# Altium schematic symbol library WE-HEPC.SchLib: 16 symbols
Pins are listed as number, name and electrical type; pins without a type are passive.

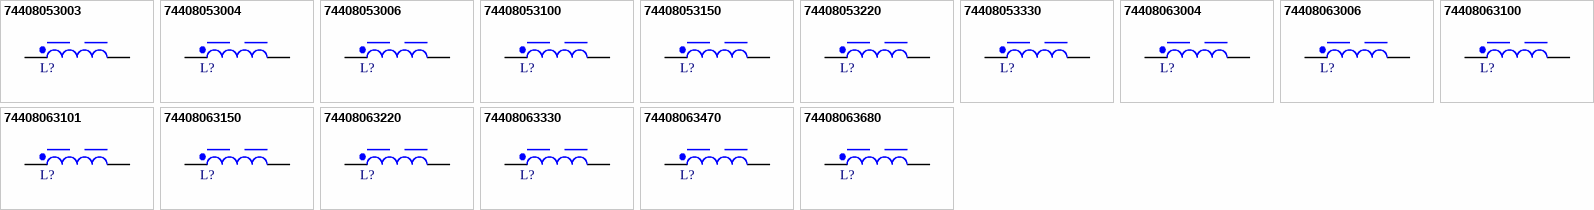
[diagram p0: symbols 74408053003 to 74408063680]

## 74408053003
designator L?, comment 3.3uH, 2A  (value not drawn)
WE-HEPC SMT Power Inductor, size 5030, 3.3uH, 2A, 75mOhm; Manufacturer Part Number: 74408053003; Manufacturer: Wurth Elektronik; Case/Size Code: 5030; DC Resistance: 60mOhm; Inductance Tolerance: +/-20%; Saturation Current: 2.3A; Self Resonant Frequency: 100MHz; Category: Power Inductors; Match Code: WE-HEPC; ComponentLink1Description: Website Link; ComponentLink1URL: https://www.we-online.com/redexpert/article/74408053003?ad; ComponentLink2Description: Datasheet Link; ComponentLink2URL: https://www.we-online.com/redexpert/spec/74408053003?ad; Mount: Surface Mount; Operating Temperature Max: 125°C; Operating Temperature Min: -40°C; Packaging: Tape and Reel; Length: 4.9mm; Width: 4.9mm; Height: 2.85mm; DC Resistance Max: 75mOhm; Inductance: 3.3uH; Rated Current: 2A
footprint WE-HEPC_5030
simulation model 5030_74408053003_3.3u
pins: 1, 2

## 74408053004
designator L?, comment 4.7uH, 1.4A  (value not drawn)
WE-HEPC SMT Power Inductor, size 5030, 4.7uH, 1.4A, 100mOhm; Manufacturer Part Number: 74408053004; Manufacturer: Wurth Elektronik; Case/Size Code: 5030; DC Resistance: 80mOhm; Inductance Tolerance: +/-20%; Saturation Current: 2.1A; Self Resonant Frequency: 85MHz; Category: Power Inductors; Match Code: WE-HEPC; ComponentLink1Description: Website Link; ComponentLink1URL: https://www.we-online.com/redexpert/article/74408053004?ad; ComponentLink2Description: Datasheet Link; ComponentLink2URL: https://www.we-online.com/redexpert/spec/74408053004?ad; Mount: Surface Mount; Operating Temperature Max: 125°C; Operating Temperature Min: -40°C; Packaging: Tape and Reel; Length: 4.9mm; Width: 4.9mm; Height: 2.85mm; DC Resistance Max: 100mOhm; Inductance: 4.7uH; Rated Current: 1.4A
footprint WE-HEPC_5030
simulation model 5030_74408053004_4.7u
pins: 1, 2

## 74408053006
designator L?, comment 6.8uH, 1.3A  (value not drawn)
WE-HEPC SMT Power Inductor, size 5030, 6.8uH, 1.3A, 125mOhm; Manufacturer Part Number: 74408053006; Manufacturer: Wurth Elektronik; Case/Size Code: 5030; DC Resistance: 105mOhm; Inductance Tolerance: +/-20%; Saturation Current: 2A; Self Resonant Frequency: 60MHz; Category: Power Inductors; Match Code: WE-HEPC; ComponentLink1Description: Website Link; ComponentLink1URL: https://www.we-online.com/redexpert/article/74408053006?ad; ComponentLink2Description: Datasheet Link; ComponentLink2URL: https://www.we-online.com/redexpert/spec/74408053006?ad; Mount: Surface Mount; Operating Temperature Max: 125°C; Operating Temperature Min: -40°C; Packaging: Tape and Reel; Length: 4.9mm; Width: 4.9mm; Height: 2.85mm; DC Resistance Max: 125mOhm; Inductance: 6.8uH; Rated Current: 1.3A
footprint WE-HEPC_5030
simulation model 5030_74408053006_6.8u
pins: 1, 2

## 74408053100
designator L?, comment 10uH, 1.2A  (value not drawn)
WE-HEPC SMT Power Inductor, size 5030, 10uH, 1.2A, 140mOhm; Manufacturer Part Number: 74408053100; Manufacturer: Wurth Elektronik; Case/Size Code: 5030; DC Resistance: 120mOhm; Inductance Tolerance: +/-20%; Saturation Current: 1.3A; Self Resonant Frequency: 37MHz; Category: Power Inductors; Match Code: WE-HEPC; ComponentLink1Description: Website Link; ComponentLink1URL: https://www.we-online.com/redexpert/article/74408053100?ad; ComponentLink2Description: Datasheet Link; ComponentLink2URL: https://www.we-online.com/redexpert/spec/74408053100?ad; Mount: Surface Mount; Operating Temperature Max: 125°C; Operating Temperature Min: -40°C; Packaging: Tape and Reel; Length: 4.9mm; Width: 4.9mm; Height: 2.85mm; DC Resistance Max: 140mOhm; Inductance: 10uH; Rated Current: 1.2A
footprint WE-HEPC_5030
simulation model 5030_74408053100_10u
pins: 1, 2

## 74408053150
designator L?, comment 15uH, 1.1A  (value not drawn)
WE-HEPC SMT Power Inductor, size 5030, 15uH, 1.1A, 200mOhm; Manufacturer Part Number: 74408053150; Manufacturer: Wurth Elektronik; Case/Size Code: 5030; DC Resistance: 180mOhm; Inductance Tolerance: +/-20%; Saturation Current: 1.2A; Self Resonant Frequency: 22MHz; Category: Power Inductors; Match Code: WE-HEPC; ComponentLink1Description: Website Link; ComponentLink1URL: https://www.we-online.com/redexpert/article/74408053150?ad; ComponentLink2Description: Datasheet Link; ComponentLink2URL: https://www.we-online.com/redexpert/spec/74408053150?ad; Mount: Surface Mount; Operating Temperature Max: 125°C; Operating Temperature Min: -40°C; Packaging: Tape and Reel; Length: 4.9mm; Width: 4.9mm; Height: 2.85mm; DC Resistance Max: 200mOhm; Inductance: 15uH; Rated Current: 1.1A
footprint WE-HEPC_5030
simulation model 5030_74408053150_15u
pins: 1, 2

## 74408053220
designator L?, comment 22uH, 0.9A  (value not drawn)
WE-HEPC SMT Power Inductor, size 5030, 22uH, 0.9A, 270mOhm; Manufacturer Part Number: 74408053220; Manufacturer: Wurth Elektronik; Case/Size Code: 5030; DC Resistance: 250mOhm; Inductance Tolerance: +/-20%; Saturation Current: 0.8A; Self Resonant Frequency: 20MHz; Category: Power Inductors; Match Code: WE-HEPC; ComponentLink1Description: Website Link; ComponentLink1URL: https://www.we-online.com/redexpert/article/74408053220?ad; ComponentLink2Description: Datasheet Link; ComponentLink2URL: https://www.we-online.com/redexpert/spec/74408053220?ad; Mount: Surface Mount; Operating Temperature Max: 125°C; Operating Temperature Min: -40°C; Packaging: Tape and Reel; Length: 4.9mm; Width: 4.9mm; Height: 2.85mm; DC Resistance Max: 270mOhm; Inductance: 22uH; Rated Current: 0.9A
footprint WE-HEPC_5030
simulation model 5030_74408053220_22u
pins: 1, 2

## 74408053330
designator L?, comment 33uH, 0.8A  (value not drawn)
WE-HEPC SMT Power Inductor, size 5030, 33uH, 0.8A, 365mOhm; Manufacturer Part Number: 74408053330; Manufacturer: Wurth Elektronik; Case/Size Code: 5030; DC Resistance: 345mOhm; Inductance Tolerance: +/-20%; Saturation Current: 0.7A; Self Resonant Frequency: 15MHz; Category: Power Inductors; Match Code: WE-HEPC; ComponentLink1Description: Website Link; ComponentLink1URL: https://www.we-online.com/redexpert/article/74408053330?ad; ComponentLink2Description: Datasheet Link; ComponentLink2URL: https://www.we-online.com/redexpert/spec/74408053330?ad; Mount: Surface Mount; Operating Temperature Max: 125°C; Operating Temperature Min: -40°C; Packaging: Tape and Reel; Length: 4.9mm; Width: 4.9mm; Height: 2.85mm; DC Resistance Max: 365mOhm; Inductance: 33uH; Rated Current: 0.8A
footprint WE-HEPC_5030
simulation model 5030_74408053330_33u
pins: 1, 2

## 74408063004
designator L?, comment 4.7uH, 2A  (value not drawn)
WE-HEPC SMT Power Inductor, size 6030, 4.7uH, 2A, 90mOhm; Manufacturer Part Number: 74408063004; Manufacturer: Wurth Elektronik; Case/Size Code: 6030; DC Resistance: 70mOhm; Inductance Tolerance: +/-20%; Saturation Current: 2.5A; Self Resonant Frequency: 75MHz; Category: Power Inductors; Match Code: WE-HEPC; ComponentLink1Description: Website Link; ComponentLink1URL: https://www.we-online.com/redexpert/article/74408063004?ad; ComponentLink2Description: Datasheet Link; ComponentLink2URL: https://www.we-online.com/redexpert/spec/74408063004?ad; Mount: Surface Mount; Operating Temperature Max: 125°C; Operating Temperature Min: -40°C; Packaging: Tape and Reel; Length: 5.9mm; Width: 5.9mm; Height: 2.85mm; DC Resistance Max: 90mOhm; Inductance: 4.7uH; Rated Current: 2A
footprint WE-HEPC_6030
simulation model 6030_74408063004_4.7u
pins: 1, 2

## 74408063006
designator L?, comment 6.8uH, 1.8A  (value not drawn)
WE-HEPC SMT Power Inductor, size 6030, 6.8uH, 1.8A, 100mOhm; Manufacturer Part Number: 74408063006; Manufacturer: Wurth Elektronik; Case/Size Code: 6030; DC Resistance: 80mOhm; Inductance Tolerance: +/-20%; Saturation Current: 2.2A; Self Resonant Frequency: 40MHz; Category: Power Inductors; Match Code: WE-HEPC; ComponentLink1Description: Website Link; ComponentLink1URL: https://www.we-online.com/redexpert/article/74408063006?ad; ComponentLink2Description: Datasheet Link; ComponentLink2URL: https://www.we-online.com/redexpert/spec/74408063006?ad; Mount: Surface Mount; Operating Temperature Max: 125°C; Operating Temperature Min: -40°C; Packaging: Tape and Reel; Length: 5.9mm; Width: 5.9mm; Height: 2.85mm; DC Resistance Max: 100mOhm; Inductance: 6.8uH; Rated Current: 1.8A
footprint WE-HEPC_6030
simulation model 6030_74408063006_6.8u
pins: 1, 2

## 74408063100
designator L?, comment 10uH, 1.35A  (value not drawn)
WE-HEPC SMT Power Inductor, size 6030, 10uH, 1.35A, 140mOhm; Manufacturer Part Number: 74408063100; Manufacturer: Wurth Elektronik; Case/Size Code: 6030; DC Resistance: 125mOhm; Inductance Tolerance: +/-20%; Saturation Current: 1.6A; Self Resonant Frequency: 27MHz; Category: Power Inductors; Match Code: WE-HEPC; ComponentLink1Description: Website Link; ComponentLink1URL: https://www.we-online.com/redexpert/article/74408063100?ad; ComponentLink2Description: Datasheet Link; ComponentLink2URL: https://www.we-online.com/redexpert/spec/74408063100?ad; Mount: Surface Mount; Operating Temperature Max: 125°C; Operating Temperature Min: -40°C; Packaging: Tape and Reel; Length: 5.9mm; Width: 5.9mm; Height: 2.85mm; DC Resistance Max: 140mOhm; Inductance: 10uH; Rated Current: 1.35A
footprint WE-HEPC_6030
simulation model 6030_74408063100_10u
pins: 1, 2

## 74408063101
designator L?, comment 100uH, 0.5A  (value not drawn)
WE-HEPC SMT Power Inductor, size 6030, 100uH, 0.5A, 850mOhm; Manufacturer Part Number: 74408063101; Manufacturer: Wurth Elektronik; Case/Size Code: 6030; DC Resistance: 800mOhm; Inductance Tolerance: +/-20%; Self Resonant Frequency: 8MHz; Category: Power Inductors; Match Code: WE-HEPC; ComponentLink1Description: Website Link; ComponentLink1URL: https://www.we-online.com/redexpert/article/74408063101?ad; ComponentLink2Description: Datasheet Link; ComponentLink2URL: https://www.we-online.com/redexpert/spec/74408063101?ad; Mount: Surface Mount; Operating Temperature Max: 125°C; Operating Temperature Min: -40°C; Packaging: Tape and Reel; Length: 5.9mm; Width: 5.9mm; Height: 2.85mm; DC Resistance Max: 850mOhm; Inductance: 100uH; Rated Current: 0.5A; Saturation Current: 0.5A
footprint WE-HEPC_6030
simulation model 6030_74408063101_100u
pins: 1, 2

## 74408063150
designator L?, comment 15uH, 1.2A  (value not drawn)
WE-HEPC SMT Power Inductor, size 6030, 15uH, 1.2A, 180mOhm; Manufacturer Part Number: 74408063150; Manufacturer: Wurth Elektronik; Case/Size Code: 6030; DC Resistance: 160mOhm; Inductance Tolerance: +/-20%; Saturation Current: 1.4A; Self Resonant Frequency: 20MHz; Category: Power Inductors; Match Code: WE-HEPC; ComponentLink1Description: Website Link; ComponentLink1URL: https://www.we-online.com/redexpert/article/74408063150?ad; ComponentLink2Description: Datasheet Link; ComponentLink2URL: https://www.we-online.com/redexpert/spec/74408063150?ad; Mount: Surface Mount; Operating Temperature Max: 125°C; Operating Temperature Min: -40°C; Packaging: Tape and Reel; Length: 5.9mm; Width: 5.9mm; Height: 2.85mm; DC Resistance Max: 180mOhm; Inductance: 15uH; Rated Current: 1.2A
footprint WE-HEPC_6030
simulation model 6030_74408063150_15u
pins: 1, 2

## 74408063220
designator L?, comment 22uH, 1A  (value not drawn)
WE-HEPC SMT Power Inductor, size 6030, 22uH, 1A, 220mOhm; Manufacturer Part Number: 74408063220; Manufacturer: Wurth Elektronik; Case/Size Code: 6030; DC Resistance: 200mOhm; Inductance Tolerance: +/-20%; Saturation Current: 1.1A; Self Resonant Frequency: 18MHz; Category: Power Inductors; Match Code: WE-HEPC; ComponentLink1Description: Website Link; ComponentLink1URL: https://www.we-online.com/redexpert/article/74408063220?ad; ComponentLink2Description: Datasheet Link; ComponentLink2URL: https://www.we-online.com/redexpert/spec/74408063220?ad; Mount: Surface Mount; Operating Temperature Max: 125°C; Operating Temperature Min: -40°C; Packaging: Tape and Reel; Length: 5.9mm; Width: 5.9mm; Height: 2.85mm; DC Resistance Max: 220mOhm; Inductance: 22uH; Rated Current: 1A
footprint WE-HEPC_6030
simulation model 6030_74408063220_22u
pins: 1, 2

## 74408063330
designator L?, comment 33uH, 0.9A  (value not drawn)
WE-HEPC SMT Power Inductor, size 6030, 33uH, 0.9A, 285mOhm; Manufacturer Part Number: 74408063330; Manufacturer: Wurth Elektronik; Case/Size Code: 6030; DC Resistance: 265mOhm; Inductance Tolerance: +/-20%; Self Resonant Frequency: 15MHz; Category: Power Inductors; Match Code: WE-HEPC; ComponentLink1Description: Website Link; ComponentLink1URL: https://www.we-online.com/redexpert/article/74408063330?ad; ComponentLink2Description: Datasheet Link; ComponentLink2URL: https://www.we-online.com/redexpert/spec/74408063330?ad; Mount: Surface Mount; Operating Temperature Max: 125°C; Operating Temperature Min: -40°C; Packaging: Tape and Reel; Length: 5.9mm; Width: 5.9mm; Height: 2.85mm; DC Resistance Max: 285mOhm; Inductance: 33uH; Rated Current: 0.9A; Saturation Current: 0.9A
footprint WE-HEPC_6030
simulation model 6030_74408063330_33u
pins: 1, 2

## 74408063470
designator L?, comment 47uH, 0.8A  (value not drawn)
WE-HEPC SMT Power Inductor, size 6030, 47uH, 0.8A, 385mOhm; Manufacturer Part Number: 74408063470; Manufacturer: Wurth Elektronik; Case/Size Code: 6030; DC Resistance: 365mOhm; Inductance Tolerance: +/-20%; Self Resonant Frequency: 11MHz; Category: Power Inductors; Match Code: WE-HEPC; ComponentLink1Description: Website Link; ComponentLink1URL: https://www.we-online.com/redexpert/article/74408063470?ad; ComponentLink2Description: Datasheet Link; ComponentLink2URL: https://www.we-online.com/redexpert/spec/74408063470?ad; Mount: Surface Mount; Operating Temperature Max: 125°C; Operating Temperature Min: -40°C; Packaging: Tape and Reel; Length: 5.9mm; Width: 5.9mm; Height: 2.85mm; DC Resistance Max: 385mOhm; Inductance: 47uH; Rated Current: 0.8A; Saturation Current: 0.8A
footprint WE-HEPC_6030
simulation model 6030_74408063470_47u
pins: 1, 2

## 74408063680
designator L?, comment 68uH, 0.6A  (value not drawn)
WE-HEPC SMT Power Inductor, size 6030, 68uH, 0.6A, 535mOhm; Manufacturer Part Number: 74408063680; Manufacturer: Wurth Elektronik; Case/Size Code: 6030; DC Resistance: 515mOhm; Inductance Tolerance: +/-20%; Saturation Current: 0.7A; Self Resonant Frequency: 9MHz; Category: Power Inductors; Match Code: WE-HEPC; ComponentLink1Description: Website Link; ComponentLink1URL: https://www.we-online.com/redexpert/article/74408063680?ad; ComponentLink2Description: Datasheet Link; ComponentLink2URL: https://www.we-online.com/redexpert/spec/74408063680?ad; Mount: Surface Mount; Operating Temperature Max: 125°C; Operating Temperature Min: -40°C; Packaging: Tape and Reel; Length: 5.9mm; Width: 5.9mm; Height: 2.85mm; DC Resistance Max: 535mOhm; Inductance: 68uH; Rated Current: 0.6A
footprint WE-HEPC_6030
simulation model 6030_74408063680_68u
pins: 1, 2